# EAGLE library part M37905(64PIN) (library renesas_mcu)
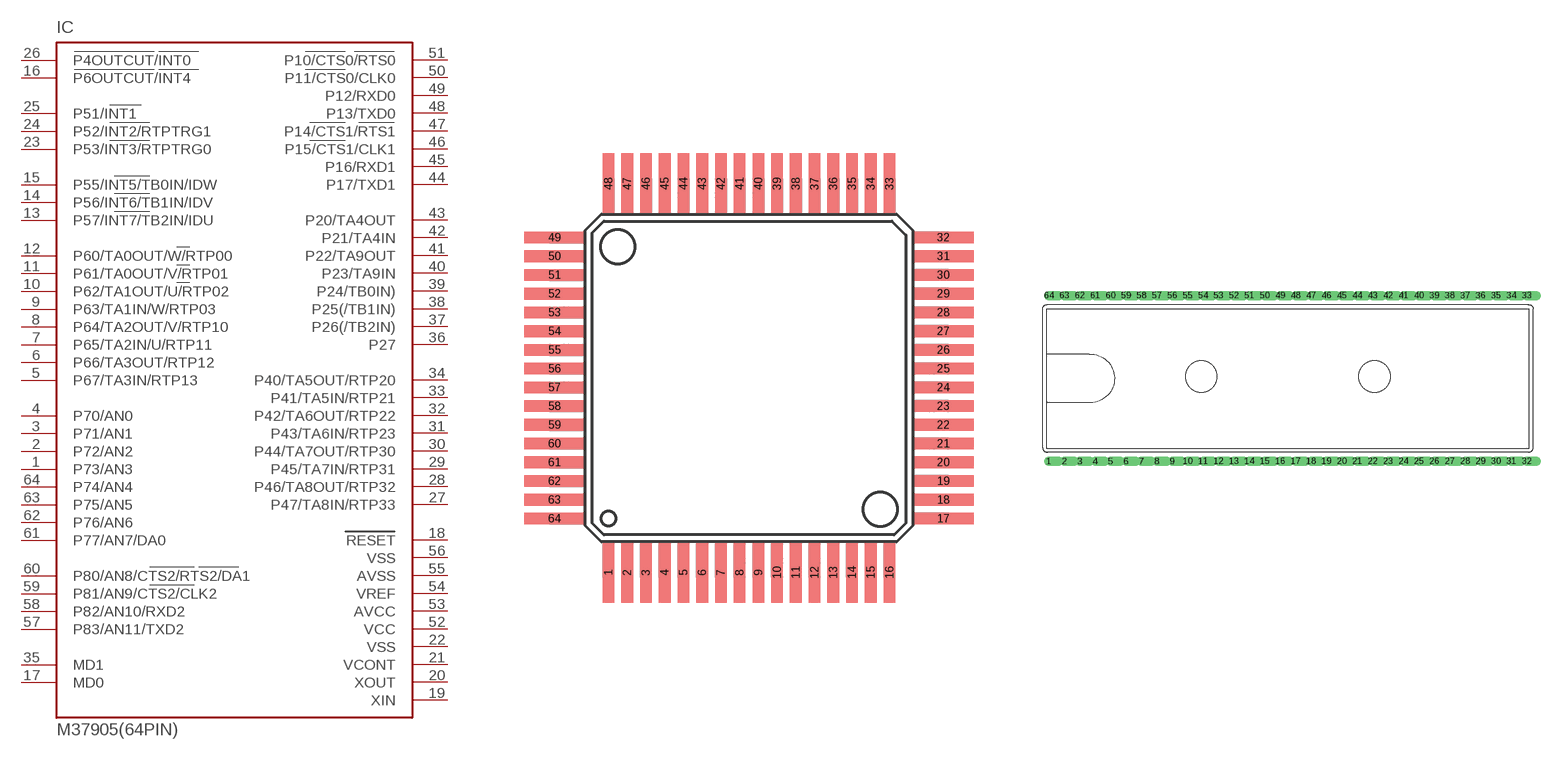
[diagram p79: symbol with the pads of 64P6N-A; footprints 64P6N-A, 64P4B]

Designator prefix IC

## M37905(64PIN)FP  [64P6N-A]
1  P73/AN3
2  P72/AN2
3  P71/AN1
4  P70/AN0
5  P67/TA3IN/RTP13
6  P66/TA3OUT/RTP12
7  P65/TA2IN/U/RTP11
8  P64/TA2OUT/V/RTP10
9  P63/TA1IN/W/RTP03
10  P62/TA1OUT/U/RTP02
11  P61/TA0OUT/V/RTP01
12  P60/TA0OUT/W/RTP00
13  P57/INT7/TB2IN/IDU
14  P56/INT6/TB1IN/IDV
15  P55/INT5/TB0IN/IDW
16  P6OUTCUT/INT4
17  MD0
18  RESET
19  XIN
20  XOUT
21  VCONT
22  VSS
23  P53/INT3/RTPTRG0
24  P52/INT2/RTPTRG1
25  P51/INT1
26  P4OUTCUT/INT0
27  P47/TA8IN/RTP33
28  P46/TA8OUT/RTP32
29  P45/TA7IN/RTP31
30  P44/TA7OUT/RTP30
31  P43/TA6IN/RTP23
32  P42/TA6OUT/RTP22
33  P41/TA5IN/RTP21
34  P40/TA5OUT/RTP20
35  MD1
36  P27
37  P26(/TB2IN)
38  P25(/TB1IN)
39  P24/TB0IN)
40  P23/TA9IN
41  P22/TA9OUT
42  P21/TA4IN
43  P20/TA4OUT
44  P17/TXD1
45  P16/RXD1
46  P15/CTS1/CLK1
47  P14/CTS1/RTS1
48  P13/TXD0
49  P12/RXD0
50  P11/CTS0/CLK0
51  P10/CTS0/RTS0
52  VCC
53  AVCC
54  VREF
55  AVSS
56  VSS
57  P83/AN11/TXD2
58  P82/AN10/RXD2
59  P81/AN9/CTS2/CLK2
60  P80/AN8/CTS2/RTS2/DA1
61  P77/AN7/DA0
62  P76/AN6
63  P75/AN5
64  P74/AN4

## M37905(64PIN)SP  [64P4B]
1  P83/AN11/TXD2
2  P82/AN10/RXD2
3  P81/AN9/CTS2/CLK2
4  P80/AN8/CTS2/RTS2/DA1
5  P77/AN7/DA0
6  P76/AN6
7  P75/AN5
8  P74/AN4
9  P73/AN3
10  P72/AN2
11  P71/AN1
12  P70/AN0
13  P67/TA3IN/RTP13
14  P66/TA3OUT/RTP12
15  P65/TA2IN/U/RTP11
16  P64/TA2OUT/V/RTP10
17  P63/TA1IN/W/RTP03
18  P62/TA1OUT/U/RTP02
19  P61/TA0OUT/V/RTP01
20  P60/TA0OUT/W/RTP00
21  P57/INT7/TB2IN/IDU
22  P56/INT6/TB1IN/IDV
23  P55/INT5/TB0IN/IDW
24  P6OUTCUT/INT4
25  MD0
26  RESET
27  XIN
28  XOUT
29  VCONT
30  VSS
31  P53/INT3/RTPTRG0
32  P52/INT2/RTPTRG1
33  P51/INT1
34  P4OUTCUT/INT0
35  P47/TA8IN/RTP33
36  P46/TA8OUT/RTP32
37  P45/TA7IN/RTP31
38  P44/TA7OUT/RTP30
39  P43/TA6IN/RTP23
40  P42/TA6OUT/RTP22
41  P41/TA5IN/RTP21
42  P40/TA5OUT/RTP20
43  MD1
44  P27
45  P26(/TB2IN)
46  P25(/TB1IN)
47  P24/TB0IN)
48  P23/TA9IN
49  P22/TA9OUT
50  P21/TA4IN
51  P20/TA4OUT
52  P17/TXD1
53  P16/RXD1
54  P15/CTS1/CLK1
55  P14/CTS1/RTS1
56  P13/TXD0
57  P12/RXD0
58  P11/CTS0/CLK0
59  P10/CTS0/RTS0
60  VCC
61  AVCC
62  VREF
63  AVSS
64  VSS

## Footprint 64P6N-A (pad centres in mm)
smd 0.5 x 2.6: 1 -6,-8.3; 2 -5.2,-8.3; 3 -4.4,-8.3; 4 -3.6,-8.3; 5 -2.8,-8.3; 6 -2,-8.3; 7 -1.2,-8.3; 8 -0.4,-8.3; 9 0.4,-8.3; 10 1.2,-8.3; 11 2,-8.3; 12 2.8,-8.3; 13 3.6,-8.3; 14 4.4,-8.3; 15 5.2,-8.3; 16 6,-8.3; 33 6,8.3; 34 5.2,8.3; 35 4.4,8.3; 36 3.6,8.3; 37 2.8,8.3; 38 2,8.3; 39 1.2,8.3; 40 0.4,8.3; 41 -0.4,8.3; 42 -1.2,8.3; 43 -2,8.3; 44 -2.8,8.3; 45 -3.6,8.3; 46 -4.4,8.3; 47 -5.2,8.3; 48 -6,8.3
smd 2.6 x 0.5: 17 8.3,-6; 18 8.3,-5.2; 19 8.3,-4.4; 20 8.3,-3.6; 21 8.3,-2.8; 22 8.3,-2; 23 8.3,-1.2; 24 8.3,-0.4; 25 8.3,0.4; 26 8.3,1.2; 27 8.3,2; 28 8.3,2.8; 29 8.3,3.6; 30 8.3,4.4; 31 8.3,5.2; 32 8.3,6; 49 -8.3,6; 50 -8.3,5.2; 51 -8.3,4.4; 52 -8.3,3.6; 53 -8.3,2.8; 54 -8.3,2; 55 -8.3,1.2; 56 -8.3,0.4; 57 -8.3,-0.4; 58 -8.3,-1.2; 59 -8.3,-2; 60 -8.3,-2.8; 61 -8.3,-3.6; 62 -8.3,-4.4; 63 -8.3,-5.2; 64 -8.3,-6

## Footprint 64P4B (pad centres in mm)
drill 0.61 offset: 1 -27.559,-9.557; 2 -25.781,-9.557; 3 -24.003,-9.557; 4 -22.225,-9.557; 5 -20.447,-9.557; 6 -18.669,-9.557; 7 -16.891,-9.557; 8 -15.113,-9.557; 9 -13.335,-9.557; 10 -11.557,-9.557; 11 -9.779,-9.557; 12 -8.001,-9.557; 13 -6.223,-9.557; 14 -4.445,-9.557; 15 -2.667,-9.557; 16 -0.889,-9.557; 17 0.889,-9.557; 18 2.667,-9.557; 19 4.445,-9.557; 20 6.223,-9.557; 21 8.001,-9.557; 22 9.779,-9.557; 23 11.557,-9.557; 24 13.335,-9.557; 25 15.113,-9.557; 26 16.891,-9.557; 27 18.669,-9.557; 28 20.447,-9.557; 29 22.225,-9.557; 30 24.003,-9.557; 31 25.781,-9.557; 32 27.559,-9.557; 33 27.559,9.557; 34 25.781,9.557; 35 24.003,9.557; 36 22.225,9.557; 37 20.447,9.557; 38 18.669,9.557; 39 16.891,9.557; 40 15.113,9.557; 41 13.335,9.557; 42 11.557,9.557; 43 9.779,9.557; 44 8.001,9.557; 45 6.223,9.557; 46 4.445,9.557; 47 2.667,9.557; 48 0.889,9.557; 49 -0.889,9.557; 50 -2.667,9.557; 51 -4.445,9.557; 52 -6.223,9.557; 53 -8.001,9.557; 54 -9.779,9.557; 55 -11.557,9.557; 56 -13.335,9.557; 57 -15.113,9.557; 58 -16.891,9.557; 59 -18.669,9.557; 60 -20.447,9.557; 61 -22.225,9.557; 62 -24.003,9.557; 63 -25.781,9.557; 64 -27.559,9.557